# Altium schematic symbol library IRG4PC40FD.Schlib: 1 symbol
Pins are listed as number, name and electrical type; pins without a type are passive.

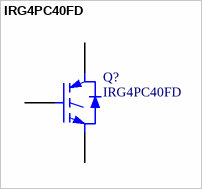
[diagram p0: symbol IRG4PC40FD]

## IRG4PC40FD
designator Q?
Insulated Gate Bipolar Transistor with Ultrafast Soft Recovery Diode
pins: 1 G, 2 C, 3 E